# Altium schematic symbol library Interface_UART.SchLib: 133 symbols (part 2 of 2)
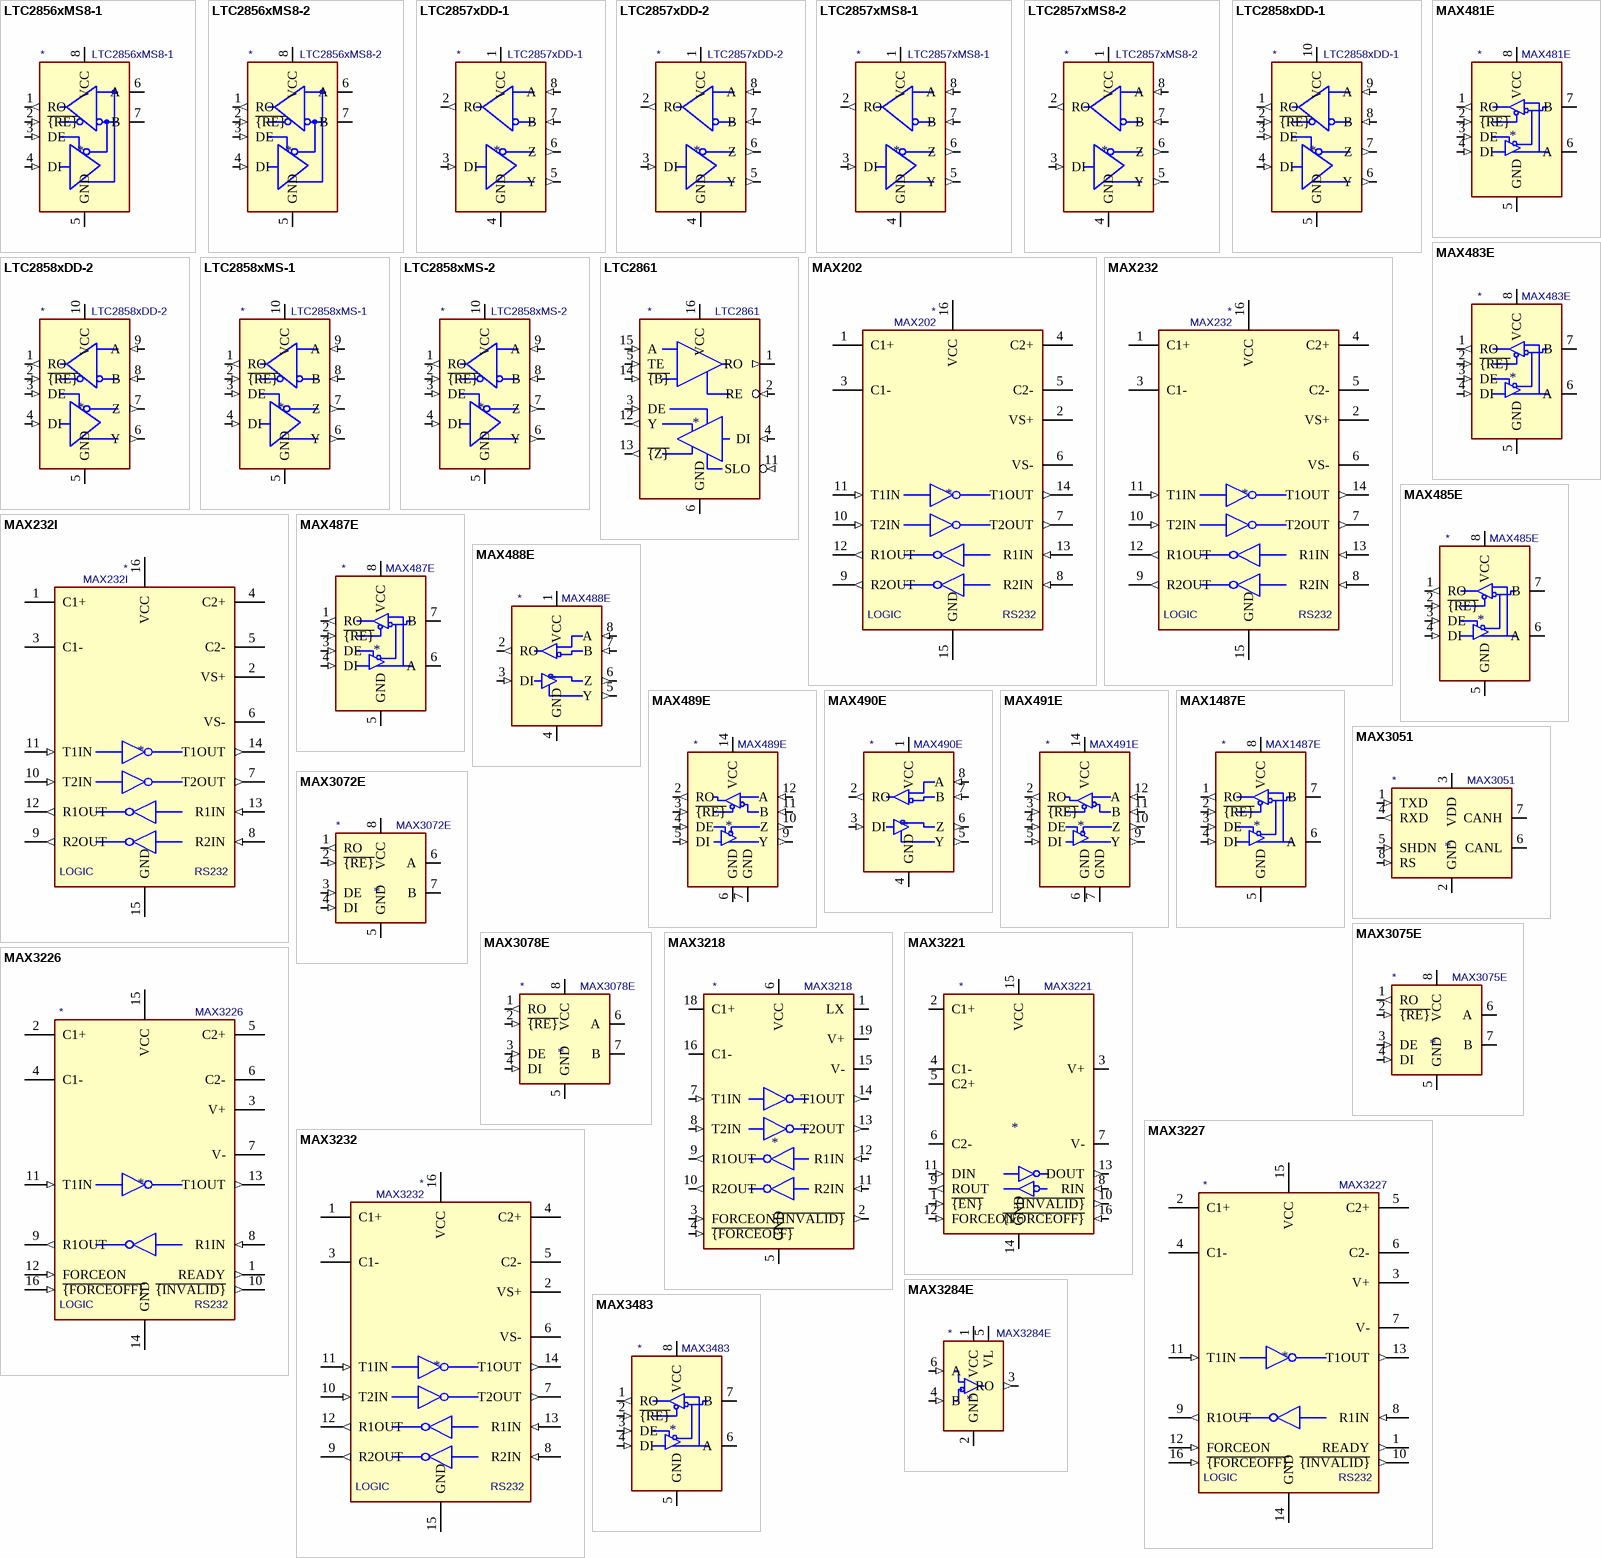
[diagram p5: symbols LTC2856xMS8-1 to MAX3483]

## MAX3218
designator *  value MAX3218
ki_keywords: 1μA Supply Current; ki_description: Dual RS-232 Transceiver, 1.8V to 4.25V, AutoShutdown, DIP-20/SSOP-20; ki_fp_filters: DIP*W7.62mm* SSOP*5.3x7.2mm*P0.65mm*; Supplier: https://datasheets.maximintegrated.com/en/ds/MAX3218.pdf
pins: 1 LX, 2 ~{{INVALID}} (out), 3 FORCEON (in), 4 ~{{FORCEOFF}} (in), 5 GND (power), 6 VCC (power), 7 T1IN (in), 8 T2IN (in), 9 R1OUT (out), 10 R2OUT (out), 11 R2IN (in), 12 R1IN (in), 13 T2OUT (out), 14 T1OUT (out), 15 V- (power), 16 C1-, 17 GND hidden, 18 C1+, 19 V+ (power), 20 GND hidden

## MAX3221
designator *  value MAX3221
ki_keywords: serial UART RS232; ki_description: RS232 transceiver with 15kV ESD protection; ki_fp_filters: SSOP* TSSOP*; Supplier: http://www.ti.com/lit/ds/symlink/max3221.pdf
pins: 1 ~{{EN}} (in), 2 C1+, 3 V+ (power), 4 C1-, 5 C2+, 6 C2-, 7 V- (power), 8 RIN (in), 9 ROUT (out), 10 ~{{INVALID}} (out), 11 DIN (in), 12 FORCEON (in), 13 DOUT (out), 14 GND (power), 15 VCC (power), 16 ~{{FORCEOFF}} (in)

## MAX3226
designator *  value MAX3226
ki_keywords: rs232 uart transceiver; ki_description: Single RS232 driver/receiver, 3.0V to 5V supply, 250kb/s, AutoShutdown Plus, SSOP-16 package; ki_fp_filters: SSOP*5.3x6.2mm*P0.65mm*; Footprint: Package_SO:SSOP-16_5.3x6.2mm_P0.65mm; Supplier: https://datasheets.maximintegrated.com/en/ds/MAX3224-MAX3245.pdf
footprint SSOP-16_5.3x6.2mm_P0.65mm
pins: 1 READY (out), 2 C1+, 3 V+ (power), 4 C1-, 5 C2+, 6 C2-, 7 V- (power), 8 R1IN (in), 9 R1OUT (out), 10 ~{{INVALID}} (out), 11 T1IN (in), 12 FORCEON (in), 13 T1OUT (out), 14 GND (power), 15 VCC (power), 16 ~{{FORCEOFF}} (in)
text: LOGIC; RS232

## MAX3227
designator *  value MAX3227
ki_keywords: rs232 uart transceiver; ki_description: Single RS232 driver/receiver, 3.0V to 5V supply, 1Mb/s, AutoShutdown Plus, SSOP-16 package; ki_fp_filters: SSOP*5.3x6.2mm*P0.65mm*; Footprint: Package_SO:SSOP-16_5.3x6.2mm_P0.65mm; Supplier: https://datasheets.maximintegrated.com/en/ds/MAX3224-MAX3245.pdf
footprint SSOP-16_5.3x6.2mm_P0.65mm
pins: 1 READY (out), 2 C1+, 3 V+ (power), 4 C1-, 5 C2+, 6 C2-, 7 V- (power), 8 R1IN (in), 9 R1OUT (out), 10 ~{{INVALID}} (out), 11 T1IN (in), 12 FORCEON (in), 13 T1OUT (out), 14 GND (power), 15 VCC (power), 16 ~{{FORCEOFF}} (in)
text: LOGIC; RS232

## MAX3232
designator *  value MAX3232
ki_keywords: rs232 uart transceiver line-driver; ki_description: 3.0V to 5.5V, Low-Power, up to 1Mbps, True RS-232 Transceivers Using Four 0.1μF External Capacitors; ki_fp_filters: SOIC*P1.27mm* DIP*W7.62mm* TSSOP*4.4x5mm*P0.65mm*; Supplier: https://datasheets.maximintegrated.com/en/ds/MAX3222-MAX3241.pdf
pins: 1 C1+, 2 VS+ (power), 3 C1-, 4 C2+, 5 C2-, 6 VS- (power), 7 T2OUT (out), 8 R2IN (in), 9 R2OUT (out), 10 T2IN (in), 11 T1IN (in), 12 R1OUT (out), 13 R1IN (in), 14 T1OUT (out), 15 GND (power), 16 VCC (power)
text: LOGIC; RS232

## MAX3284E
designator *  value MAX3284E
ki_keywords: RS-485 RS-422 True Fail-Safe Receivers 1/4 unit load receiver; ki_description: ±15kV ESD-Protected 52Mbps, 3V to 5.5V RS-485/RS-422 True Fail-Safe Receivers, SOT23; ki_fp_filters: SOT?23*; Footprint: Package_TO_SOT_SMD:SOT-23-6; Supplier: https://datasheets.maximintegrated.com/en/ds/MAX3280E-MAX3284E.pdf
footprint SOT-23-6
pins: 1 VCC (power), 2 GND (power), 3 RO (out), 4 B (in), 5 VL (power), 6 A (in)

## MAX3483
designator *  value MAX3483
ki_keywords: RS-485 RS-422 UART line-driver transceiver; ki_description: True RS-485/RS-422, 0.25Mbps, Slew-Rate Limited, with low-power shutdown, with receiver/driver enable, 32 receiver drive capacitity, DIP-8 and SOIC-8; ki_fp_filters: DIP*W7.62mm* SOIC*3.9x4.9mm*P1.27mm*; Supplier: https://datasheets.maximintegrated.com/en/ds/MAX3483-MAX3491.pdf
pins: 1 RO (out), 2 ~{{RE}} (in), 3 DE (in), 4 DI (in), 5 GND (power), 6 A (io), 7 B (io), 8 VCC (power)

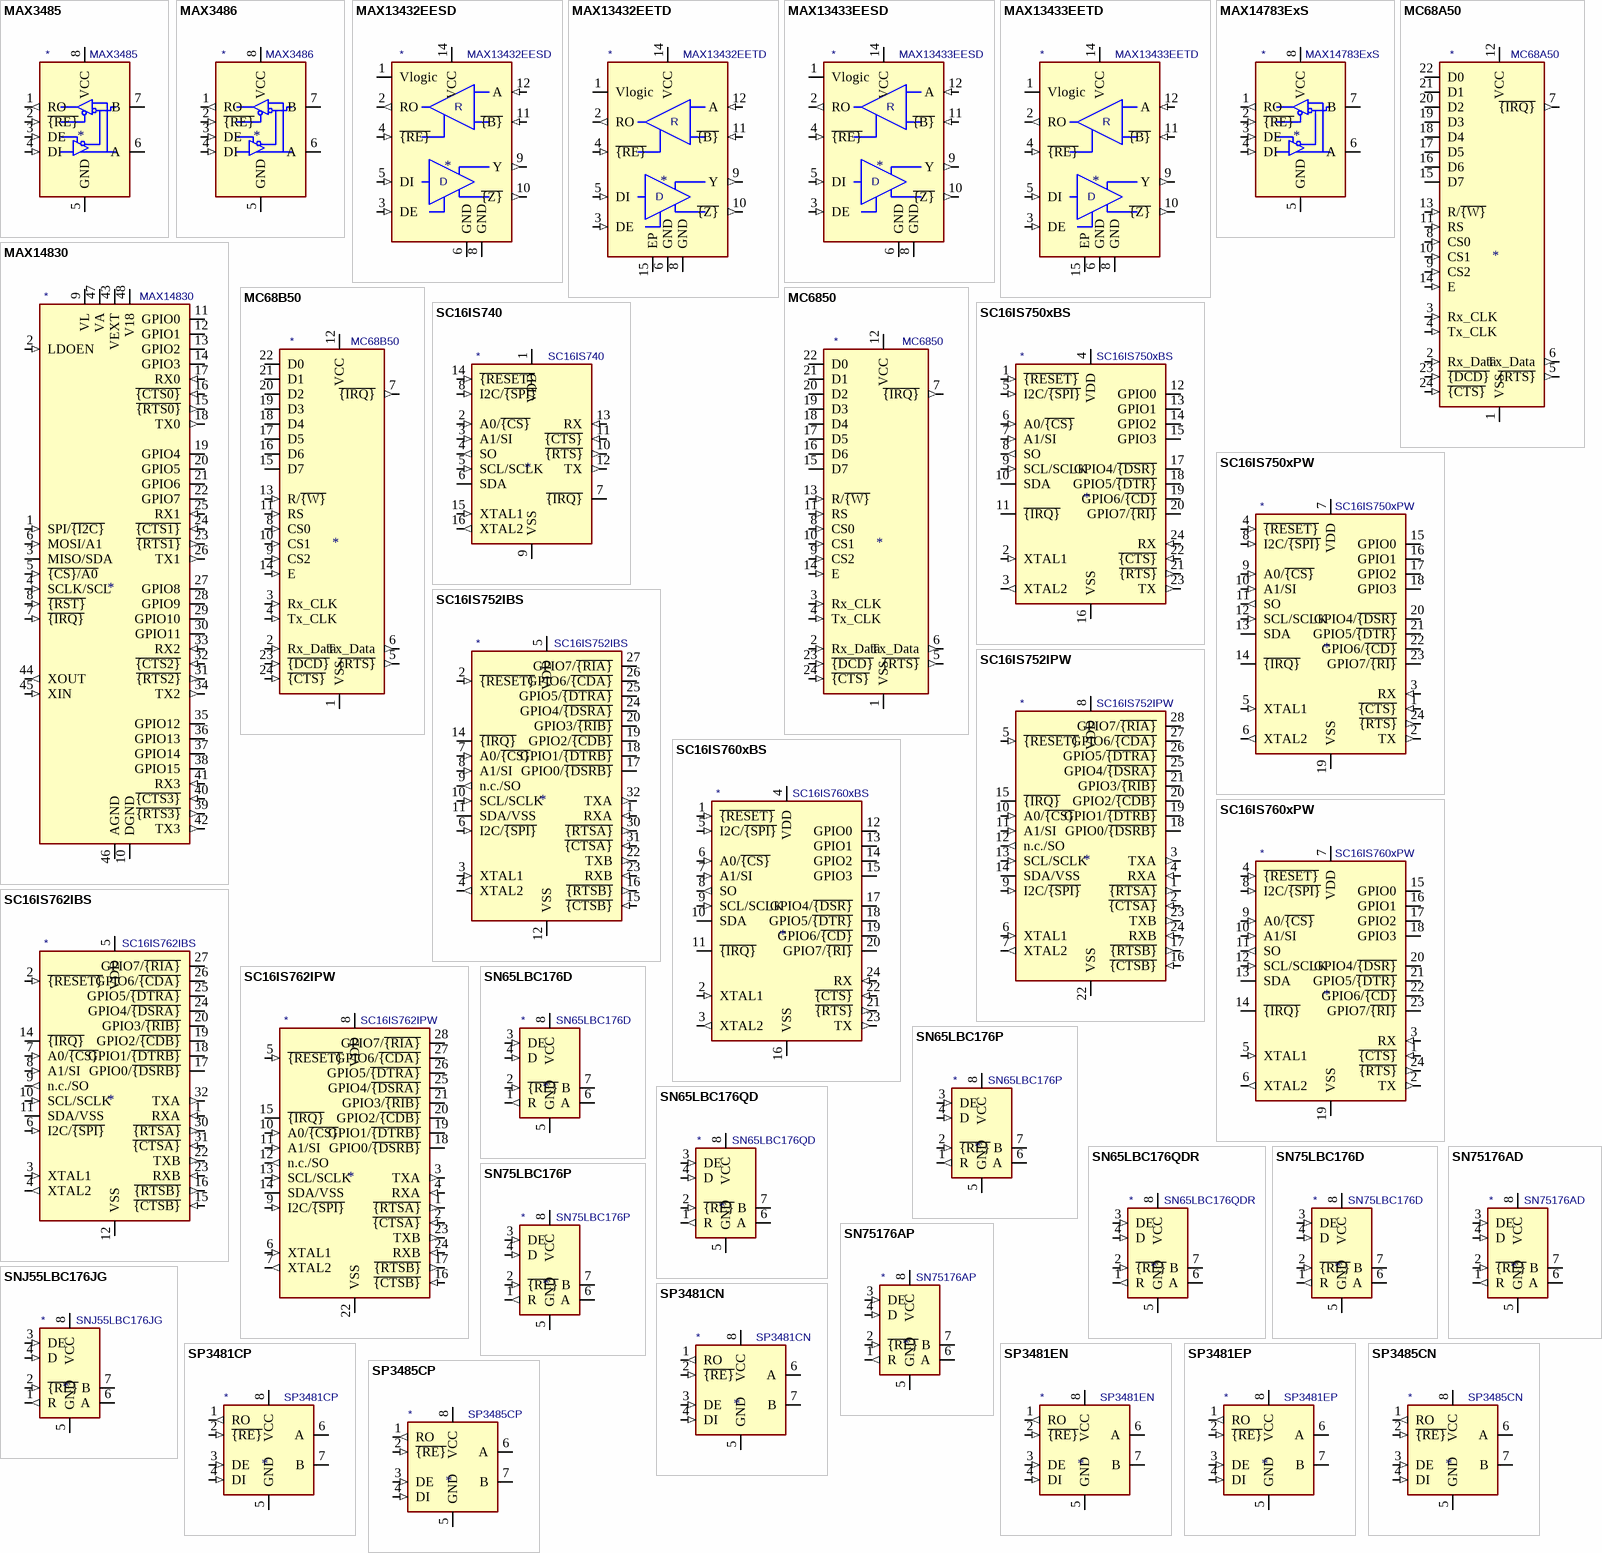
[diagram p3: symbols MAX3485 to SP3485CP]

## MAX3485
designator *  value MAX3485
ki_keywords: RS-485 RS-422 UART line-driver transceiver; ki_description: True RS-485/RS-422, 10Mbps, Slew-Rate Limited, with low-power shutdown, with receiver/driver enable, 32 receiver drive capacitity, DIP-8 and SOIC-8; ki_fp_filters: DIP*W7.62mm* SOIC*3.9x4.9mm*P1.27mm*; Supplier: https://datasheets.maximintegrated.com/en/ds/MAX3483-MAX3491.pdf
pins: 1 RO (out), 2 ~{{RE}} (in), 3 DE (in), 4 DI (in), 5 GND (power), 6 A (io), 7 B (io), 8 VCC (power)

## MAX3486
designator *  value MAX3486
ki_keywords: RS-485 RS-422 UART line-driver transceiver; ki_description: True RS-485/RS-422, 2.5Mbps, Slew-Rate Limited, with low-power shutdown, with receiver/driver enable, 32 receiver drive capacitity, DIP-8 and SOIC-8; ki_fp_filters: DIP*W7.62mm* SOIC*3.9x4.9mm*P1.27mm*; Supplier: https://datasheets.maximintegrated.com/en/ds/MAX3483-MAX3491.pdf
pins: 1 RO (out), 2 ~{{RE}} (in), 3 DE (in), 4 DI (in), 5 GND (power), 6 A (io), 7 B (io), 8 VCC (power)

## MAX13432EESD
designator *  value MAX13432EESD
ki_keywords: rs485 transceiver; ki_description: RS485 transceiver, full duplex, dual supply, receiver/driver enable, 500kbps, SOIC-14 package; ki_fp_filters: SOIC*3.9x8.7mm*P1.27mm*; Footprint: Package_SO:SOIC-14_3.9x8.7mm_P1.27mm; Supplier: https://datasheets.maximintegrated.com/en/ds/MAX13430E-MAX13433E.pdf
footprint SOIC-14_3.9x8.7mm_P1.27mm
pins: 1 Vlogic (power), 2 RO (out), 3 DE (in), 4 ~{{RE}} (in), 5 DI (in), 6 GND (power), 7 NC (in) hidden, 8 GND (power), 9 Y (out), 10 ~{{Z}} (out), 11 ~{{B}} (in), 12 A (in), 13 NC (in) hidden, 14 VCC (power)
text: R; D

## MAX13432EETD
designator *  value MAX13432EETD
ki_keywords: rs485 transceiver; ki_description: RS485 transceiver, full duplex, dual supply, receiver/driver enable, 500kbps, DFN-14 package; ki_fp_filters: DFN*3x3mm*P0.4mm*; Footprint: Package_DFN_QFN:DFN-14-1EP_3x3mm_P0.4mm_EP1.78x2.35mm; Supplier: https://datasheets.maximintegrated.com/en/ds/MAX13430E-MAX13433E.pdf
footprint DFN-14-1EP_3x3mm_P0.4mm_EP1.78x2.35mm
pins: 1 Vlogic (power), 2 RO (out), 3 DE (in), 4 ~{{RE}} (in), 5 DI (in), 6 GND (power), 7 NC (in) hidden, 8 GND (power), 9 Y (out), 10 ~{{Z}} (out), 11 ~{{B}} (in), 12 A (in), 13 NC (in) hidden, 14 VCC (power), 15 EP (power)
text: R; D

## MAX13433EESD
designator *  value MAX13433EESD
ki_keywords: rs485 transceiver; ki_description: RS485 transceiver, full duplex, dual supply, receiver/driver enable, 16Mbps, SOIC-14 package; ki_fp_filters: SOIC*3.9x8.7mm*P1.27mm*; Footprint: Package_SO:SOIC-14_3.9x8.7mm_P1.27mm; Supplier: https://datasheets.maximintegrated.com/en/ds/MAX13430E-MAX13433E.pdf
footprint SOIC-14_3.9x8.7mm_P1.27mm
pins: 1 Vlogic (power), 2 RO (out), 3 DE (in), 4 ~{{RE}} (in), 5 DI (in), 6 GND (power), 7 NC (in) hidden, 8 GND (power), 9 Y (out), 10 ~{{Z}} (out), 11 ~{{B}} (in), 12 A (in), 13 NC (in) hidden, 14 VCC (power)
text: R; D

## MAX13433EETD
designator *  value MAX13433EETD
ki_keywords: rs485 transceiver; ki_description: RS485 transceiver, full duplex, dual supply, receiver/driver enable, 16Mbps, DFN-14 package; ki_fp_filters: DFN*3x3mm*P0.4mm*; Footprint: Package_DFN_QFN:DFN-14-1EP_3x3mm_P0.4mm_EP1.78x2.35mm; Supplier: https://datasheets.maximintegrated.com/en/ds/MAX13430E-MAX13433E.pdf
footprint DFN-14-1EP_3x3mm_P0.4mm_EP1.78x2.35mm
pins: 1 Vlogic (power), 2 RO (out), 3 DE (in), 4 ~{{RE}} (in), 5 DI (in), 6 GND (power), 7 NC (in) hidden, 8 GND (power), 9 Y (out), 10 ~{{Z}} (out), 11 ~{{B}} (in), 12 A (in), 13 NC (in) hidden, 14 VCC (power), 15 EP (power)
text: R; D

## MAX14783ExS
designator *  value MAX14783ExS
ki_keywords: High-Speed 3.3V/5V RS-485/RS-422 Transceiver ESD 42Mbps; ki_description: High-Speed 3.3V/5V RS-485/RS-422 Transceiver with ±35kV HBM ESD Protection, SOIC8; ki_fp_filters: SOIC*3.9x4.9mm*P1.27mm*; Footprint: Package_SO:SOIC-8_3.9x4.9mm_P1.27mm; Supplier: https://datasheets.maximintegrated.com/en/ds/MAX14783E.pdf
footprint SOIC-8_3.9x4.9mm_P1.27mm
pins: 1 RO (out), 2 ~{{RE}} (in), 3 DE (in), 4 DI (in), 5 GND (power), 6 A (io), 7 B (io), 8 VCC (power)

## MAX14830
designator *  value MAX14830
ki_keywords: UART I2C/SPI 128W FIFO IrDA SIR; ki_description: Quad UART with I2C/SPI interface, 128 Word FIFOs, IrDA SIR built-in support, TQFN-48; ki_fp_filters: TQFN*1EP*7x7mm*P0.5mm*; Footprint: Package_DFN_QFN:TQFN-48-1EP_7x7mm_P0.5mm_EP5.1x5.1mm; Supplier: https://datasheets.maximintegrated.com/en/ds/MAX14830.pdf
footprint TQFN-48-1EP_7x7mm_P0.5mm_EP5.1x5.1mm
pins: 1 SPI/~{{I2C}} (in), 2 LDOEN (in), 3 MISO/SDA (io), 4 SCLK/SCL (in), 5 ~{{CS}/A0} (in), 6 MOSI/A1 (in), 7 ~{{IRQ}} (in), 8 ~{{RST}} (in), 9 VL (power), 10 DGND (power), 11 GPIO0 (io), 12 GPIO1 (io), 13 GPIO2 (io), 14 GPIO3 (io), 15 ~{{RTS0}} (out), 16 ~{{CTS0}} (in), 17 RX0 (in), 18 TX0 (out), 19 GPIO4 (io), 20 GPIO5 (io), 21 GPIO6 (io), 22 GPIO7 (io), 23 ~{{RTS1}} (out), 24 ~{{CTS1}} (in), 25 RX1 (in), 26 TX1 (out), 27 GPIO8 (io), 28 GPIO9 (io), 29 GPIO10 (io), 30 GPIO11 (io), 31 ~{{RTS2}} (out), 32 ~{{CTS2}} (in), 33 RX2 (in), 34 TX2 (out), 35 GPIO12 (io), 36 GPIO13 (io), 37 GPIO14 (io), 38 GPIO15 (io), 39 ~{{RTS3}} (out), 40 ~{{CTS3}} (in), 41 RX3 (in), 42 TX3 (out), 43 VEXT (power), 44 XOUT (out), 45 XIN (in), 46 AGND (power), 47 VA (power), 48 V18 (power), 49 AGND hidden

## MC68A50
designator *  value MC68A50
ki_keywords: ACIA; ki_description: Asynchronous Communications Interface Adapter 1.5MHz, DIP-40; ki_fp_filters: DIP*W15.24mm*; Footprint: Package_DIP:DIP-40_W15.24mm; Supplier: http://pdf.datasheetcatalog.com/datasheet/motorola/MC6850.pdf
footprint DIP-40_W15.24mm
pins: 1 VSS (power), 2 Rx_Data (in), 3 Rx_CLK (in), 4 Tx_CLK (in), 5 ~{{RTS}} (out), 6 Tx_Data (out), 7 ~{{IRQ}} (out), 8 CS0 (in), 9 CS2 (in), 10 CS1 (in), 11 RS (in), 12 VCC (power), 13 R/~{{W}} (in), 14 E (in), 15 D7 (io), 16 D6 (io), 17 D5 (io), 18 D4 (io), 19 D3 (io), 20 D2 (io), 21 D1 (io), 22 D0 (io), 23 ~{{DCD}} (in), 24 ~{{CTS}} (in)

## MC68B50
designator *  value MC68B50
ki_keywords: ACIA; ki_description: Asynchronous Communications Interface Adapter 2MHz, DIP-40; ki_fp_filters: DIP*W15.24mm*; Footprint: Package_DIP:DIP-40_W15.24mm; Supplier: http://pdf.datasheetcatalog.com/datasheet/motorola/MC6850.pdf
footprint DIP-40_W15.24mm
pins: 1 VSS (power), 2 Rx_Data (in), 3 Rx_CLK (in), 4 Tx_CLK (in), 5 ~{{RTS}} (out), 6 Tx_Data (out), 7 ~{{IRQ}} (out), 8 CS0 (in), 9 CS2 (in), 10 CS1 (in), 11 RS (in), 12 VCC (power), 13 R/~{{W}} (in), 14 E (in), 15 D7 (io), 16 D6 (io), 17 D5 (io), 18 D4 (io), 19 D3 (io), 20 D2 (io), 21 D1 (io), 22 D0 (io), 23 ~{{DCD}} (in), 24 ~{{CTS}} (in)

## MC6850
designator *  value MC6850
ki_keywords: ACIA; ki_description: Asynchronous Communications Interface Adapter 1MHz, DIP-40; ki_fp_filters: DIP*W15.24mm*; Footprint: Package_DIP:DIP-40_W15.24mm; Supplier: http://pdf.datasheetcatalog.com/datasheet/motorola/MC6850.pdf
footprint DIP-40_W15.24mm
pins: 1 VSS (power), 2 Rx_Data (in), 3 Rx_CLK (in), 4 Tx_CLK (in), 5 ~{{RTS}} (out), 6 Tx_Data (out), 7 ~{{IRQ}} (out), 8 CS0 (in), 9 CS2 (in), 10 CS1 (in), 11 RS (in), 12 VCC (power), 13 R/~{{W}} (in), 14 E (in), 15 D7 (io), 16 D6 (io), 17 D5 (io), 18 D4 (io), 19 D3 (io), 20 D2 (io), 21 D1 (io), 22 D0 (io), 23 ~{{DCD}} (in), 24 ~{{CTS}} (in)

## SC16IS740
designator *  value SC16IS740
ki_keywords: UART I2C/SPI 64B FIFO IrDA SIR; ki_description: Single UART with I2C/SPI interface, 64 bytes of transmit and receive FIFOs, IrDA SIR built-in support, TSSOP-16; ki_fp_filters: TSSOP*4.4x5mm*P0.65mm*; Footprint: Package_SO:TSSOP-16_4.4x5mm_P0.65mm; Supplier: https://www.nxp.com/docs/en/data-sheet/SC16IS740_750_760.pdf
footprint TSSOP-16_4.4x5mm_P0.65mm
pins: 1 VDD (power), 2 A0/~{{CS}} (in), 3 A1/SI (in), 4 SO (out), 5 SCL/SCLK (in), 6 SDA (io), 7 ~{{IRQ}} (oc), 8 I2C/~{{SPI}} (in), 9 VSS (power), 10 ~{{RTS}} (out), 11 ~{{CTS}} (in), 12 TX (out), 13 RX (in), 14 ~{{RESET}} (in), 15 XTAL1 (in), 16 XTAL2 (out)

## SC16IS750xBS
designator *  value SC16IS750xBS
ki_keywords: UART I2C/SPI 64B FIFO IrDA SIR; ki_description: Single UART with I2C/SPI interface, 64 bytes of transmit and receive FIFOs, IrDA SIR built-in support, HVQFN-24; ki_fp_filters: HVQFN*1EP*4x4mm*P0.5mm*; Footprint: Package_DFN_QFN:HVQFN-24-1EP_4x4mm_P0.5mm_EP2.5x2.5mm; Supplier: https://www.nxp.com/docs/en/data-sheet/SC16IS740_750_760.pdf
footprint HVQFN-24-1EP_4x4mm_P0.5mm_EP2.5x2.5mm
pins: 1 ~{{RESET}} (in), 2 XTAL1 (in), 3 XTAL2 (out), 4 VDD (power), 5 I2C/~{{SPI}} (in), 6 A0/~{{CS}} (in), 7 A1/SI (in), 8 SO (out), 9 SCL/SCLK (in), 10 SDA (io), 11 ~{{IRQ}} (oc), 12 GPIO0 (io), 13 GPIO1 (io), 14 GPIO2 (io), 15 GPIO3 (io), 16 VSS (power), 17 GPIO4/~{{DSR}} (io), 18 GPIO5/~{{DTR}} (io), 19 GPIO6/~{{CD}} (io), 20 GPIO7/~{{RI}} (io), 21 ~{{RTS}} (out), 22 ~{{CTS}} (in), 23 TX (out), 24 RX (in), 25 VSS hidden

## SC16IS750xPW
designator *  value SC16IS750xPW
ki_keywords: UART I2C/SPI 64B FIFO IrDA SIR; ki_description: Single UART with I2C/SPI interface, 64 bytes of transmit and receive FIFOs, IrDA SIR built-in support, TSSOP-24; ki_fp_filters: TSSOP*4.4x7.8mm*P0.65mm*; Footprint: Package_SO:TSSOP-24_4.4x7.8mm_P0.65mm; Supplier: https://www.nxp.com/docs/en/data-sheet/SC16IS740_750_760.pdf
footprint TSSOP-24_4.4x7.8mm_P0.65mm
pins: 1 ~{{CTS}} (in), 2 TX (out), 3 RX (in), 4 ~{{RESET}} (in), 5 XTAL1 (in), 6 XTAL2 (out), 7 VDD (power), 8 I2C/~{{SPI}} (in), 9 A0/~{{CS}} (in), 10 A1/SI (in), 11 SO (out), 12 SCL/SCLK (in), 13 SDA (io), 14 ~{{IRQ}} (oc), 15 GPIO0 (io), 16 GPIO1 (io), 17 GPIO2 (io), 18 GPIO3 (io), 19 VSS (power), 20 GPIO4/~{{DSR}} (io), 21 GPIO5/~{{DTR}} (io), 22 GPIO6/~{{CD}} (io), 23 GPIO7/~{{RI}} (io), 24 ~{{RTS}} (out)

## SC16IS752IBS
designator *  value SC16IS752IBS
ki_keywords: UART I2C/SPI 64B FIFO IrDA SIR; ki_description: Dual UART with I2C/SPI interface, 64 bytes of transmit and receive FIFOs, IrDA SIR built-in support, HVQFN-32; ki_fp_filters: VQFN*1EP*5x5mm*P0.5mm*; Footprint: Package_DFN_QFN:VQFN-32-1EP_5x5mm_P0.5mm_EP3.1x3.1mm; Supplier: https://www.nxp.com/docs/en/data-sheet/SC16IS752_SC16IS762.pdf
footprint VQFN-32-1EP_5x5mm_P0.5mm_EP3.1x3.1mm
pins: 1 RXA (in), 2 ~{{RESET}} (in), 3 XTAL1 (in), 4 XTAL2 (out), 5 VDD (power), 6 I2C/~{{SPI}} (in), 7 A0/~{{CS}} (in), 8 A1/SI (in), 9 n.c./SO (out), 10 SCL/SCLK (in), 11 SDA/VSS (io), 12 VSS (power), 13 VDD hidden, 14 ~{{IRQ}} (oc), 15 ~{{CTSB}} (in), 16 ~{{RTSB}} (out), 17 GPIO0/~{{DSRB}} (io), 18 GPIO1/~{{DTRB}} (io), 19 GPIO2/~{{CDB}} (io), 20 GPIO3/~{{RIB}} (io), 21 VSS hidden, 22 TXB (out), 23 RXB (in), 24 GPIO4/~{{DSRA}} (io), 25 GPIO5/~{{DTRA}} (io), 26 GPIO6/~{{CDA}} (io), 27 GPIO7/~{{RIA}} (io), 28 VDD hidden, 29 VSS hidden, 30 ~{{RTSA}} (out), 31 ~{{CTSA}} (in), 32 TXA (out), 33 VSS hidden

## SC16IS752IPW
designator *  value SC16IS752IPW
ki_keywords: UART I2C/SPI 64B FIFO IrDA SIR; ki_description: Dual UART with I2C/SPI interface, 64 bytes of transmit and receive FIFOs, IrDA SIR built-in support, TSSOP-28; ki_fp_filters: TSSOP*4.4x9.7mm*P0.65mm*; Footprint: Package_SO:TSSOP-28_4.4x9.7mm_P0.65mm; Supplier: https://www.nxp.com/docs/en/data-sheet/SC16IS752_SC16IS762.pdf
footprint TSSOP-28_4.4x9.7mm_P0.65mm
pins: 1 ~{{RTSA}} (out), 2 ~{{CTSA}} (in), 3 TXA (out), 4 RXA (in), 5 ~{{RESET}} (in), 6 XTAL1 (in), 7 XTAL2 (out), 8 VDD (power), 9 I2C/~{{SPI}} (in), 10 A0/~{{CS}} (in), 11 A1/SI (in), 12 n.c./SO (out), 13 SCL/SCLK (in), 14 SDA/VSS (io), 15 ~{{IRQ}} (oc), 16 ~{{CTSB}} (in), 17 ~{{RTSB}} (out), 18 GPIO0/~{{DSRB}} (io), 19 GPIO1/~{{DTRB}} (io), 20 GPIO2/~{{CDB}} (io), 21 GPIO3/~{{RIB}} (io), 22 VSS (power), 23 TXB (out), 24 RXB (in), 25 GPIO4/~{{DSRA}} (io), 26 GPIO5/~{{DTRA}} (io), 27 GPIO6/~{{CDA}} (io), 28 GPIO7/~{{RIA}} (io)

## SC16IS760xBS
designator *  value SC16IS760xBS
ki_keywords: UART I2C/SPI 64B FIFO IrDA SIR; ki_description: Single UART with I2C/SPI interface, 64 bytes of transmit and receive FIFOs, IrDA SIR built-in support, HVQFN-24; ki_fp_filters: HVQFN*1EP*4x4mm*P0.5mm*; Footprint: Package_DFN_QFN:HVQFN-24-1EP_4x4mm_P0.5mm_EP2.5x2.5mm; Supplier: https://www.nxp.com/docs/en/data-sheet/SC16IS740_750_760.pdf
footprint HVQFN-24-1EP_4x4mm_P0.5mm_EP2.5x2.5mm
pins: 1 ~{{RESET}} (in), 2 XTAL1 (in), 3 XTAL2 (out), 4 VDD (power), 5 I2C/~{{SPI}} (in), 6 A0/~{{CS}} (in), 7 A1/SI (in), 8 SO (out), 9 SCL/SCLK (in), 10 SDA (io), 11 ~{{IRQ}} (oc), 12 GPIO0 (io), 13 GPIO1 (io), 14 GPIO2 (io), 15 GPIO3 (io), 16 VSS (power), 17 GPIO4/~{{DSR}} (io), 18 GPIO5/~{{DTR}} (io), 19 GPIO6/~{{CD}} (io), 20 GPIO7/~{{RI}} (io), 21 ~{{RTS}} (out), 22 ~{{CTS}} (in), 23 TX (out), 24 RX (in), 25 VSS hidden

## SC16IS760xPW
designator *  value SC16IS760xPW
ki_keywords: UART I2C/SPI 64B FIFO IrDA SIR; ki_description: Single UART with I2C/SPI interface, 64 bytes of transmit and receive FIFOs, IrDA SIR built-in support, TSSOP-24; ki_fp_filters: TSSOP*4.4x7.8mm*P0.65mm*; Footprint: Package_SO:TSSOP-24_4.4x7.8mm_P0.65mm; Supplier: https://www.nxp.com/docs/en/data-sheet/SC16IS740_750_760.pdf
footprint TSSOP-24_4.4x7.8mm_P0.65mm
pins: 1 ~{{CTS}} (in), 2 TX (out), 3 RX (in), 4 ~{{RESET}} (in), 5 XTAL1 (in), 6 XTAL2 (out), 7 VDD (power), 8 I2C/~{{SPI}} (in), 9 A0/~{{CS}} (in), 10 A1/SI (in), 11 SO (out), 12 SCL/SCLK (in), 13 SDA (io), 14 ~{{IRQ}} (oc), 15 GPIO0 (io), 16 GPIO1 (io), 17 GPIO2 (io), 18 GPIO3 (io), 19 VSS (power), 20 GPIO4/~{{DSR}} (io), 21 GPIO5/~{{DTR}} (io), 22 GPIO6/~{{CD}} (io), 23 GPIO7/~{{RI}} (io), 24 ~{{RTS}} (out)

## SC16IS762IBS
designator *  value SC16IS762IBS
ki_keywords: UART I2C/SPI 64B FIFO IrDA SIR; ki_description: Dual UART with I2C/SPI interface, 64 bytes of transmit and receive FIFOs, IrDA SIR built-in support, HVQFN-32; ki_fp_filters: VQFN*1EP*5x5mm*P0.5mm*; Footprint: Package_DFN_QFN:VQFN-32-1EP_5x5mm_P0.5mm_EP3.1x3.1mm; Supplier: https://www.nxp.com/docs/en/data-sheet/SC16IS752_SC16IS762.pdf
footprint VQFN-32-1EP_5x5mm_P0.5mm_EP3.1x3.1mm
pins: 1 RXA (in), 2 ~{{RESET}} (in), 3 XTAL1 (in), 4 XTAL2 (out), 5 VDD (power), 6 I2C/~{{SPI}} (in), 7 A0/~{{CS}} (in), 8 A1/SI (in), 9 n.c./SO (out), 10 SCL/SCLK (in), 11 SDA/VSS (io), 12 VSS (power), 13 VDD hidden, 14 ~{{IRQ}} (oc), 15 ~{{CTSB}} (in), 16 ~{{RTSB}} (out), 17 GPIO0/~{{DSRB}} (io), 18 GPIO1/~{{DTRB}} (io), 19 GPIO2/~{{CDB}} (io), 20 GPIO3/~{{RIB}} (io), 21 VSS hidden, 22 TXB (out), 23 RXB (in), 24 GPIO4/~{{DSRA}} (io), 25 GPIO5/~{{DTRA}} (io), 26 GPIO6/~{{CDA}} (io), 27 GPIO7/~{{RIA}} (io), 28 VDD hidden, 29 VSS hidden, 30 ~{{RTSA}} (out), 31 ~{{CTSA}} (in), 32 TXA (out), 33 VSS hidden

## SC16IS762IPW
designator *  value SC16IS762IPW
ki_keywords: UART I2C/SPI 64B FIFO IrDA SIR; ki_description: Dual UART with I2C/SPI interface, 64 bytes of transmit and receive FIFOs, IrDA SIR built-in support, TSSOP-28; ki_fp_filters: TSSOP*4.4x9.7mm*P0.65mm*; Footprint: Package_SO:TSSOP-28_4.4x9.7mm_P0.65mm; Supplier: https://www.nxp.com/docs/en/data-sheet/SC16IS752_SC16IS762.pdf
footprint TSSOP-28_4.4x9.7mm_P0.65mm
pins: 1 ~{{RTSA}} (out), 2 ~{{CTSA}} (in), 3 TXA (out), 4 RXA (in), 5 ~{{RESET}} (in), 6 XTAL1 (in), 7 XTAL2 (out), 8 VDD (power), 9 I2C/~{{SPI}} (in), 10 A0/~{{CS}} (in), 11 A1/SI (in), 12 n.c./SO (out), 13 SCL/SCLK (in), 14 SDA/VSS (io), 15 ~{{IRQ}} (oc), 16 ~{{CTSB}} (in), 17 ~{{RTSB}} (out), 18 GPIO0/~{{DSRB}} (io), 19 GPIO1/~{{DTRB}} (io), 20 GPIO2/~{{CDB}} (io), 21 GPIO3/~{{RIB}} (io), 22 VSS (power), 23 TXB (out), 24 RXB (in), 25 GPIO4/~{{DSRA}} (io), 26 GPIO5/~{{DTRA}} (io), 27 GPIO6/~{{CDA}} (io), 28 GPIO7/~{{RIA}} (io)

## SN65LBC176D
designator *  value SN65LBC176D
ki_keywords: Differential bus transceiver; ki_description: Differential bus transceiver, SOIC-8; ki_fp_filters: SOIC*3.9x4.9mm*P1.27mm*; Footprint: Package_SO:SOIC-8_3.9x4.9mm_P1.27mm; Supplier: http://www.ti.com/lit/ds/symlink/sn75lbc176.pdf
footprint SOIC-8_3.9x4.9mm_P1.27mm
pins: 1 R (out), 2 ~{{RE}} (in), 3 DE (in), 4 D (in), 5 GND (power), 6 A (io), 7 B (io), 8 VCC (power)

## SN65LBC176P
designator *  value SN65LBC176P
ki_keywords: Differential bus transceiver; ki_description: Differential bus transceiver, DIP-8; ki_fp_filters: DIP*W7.62mm*; Footprint: Package_DIP:DIP-8_W7.62mm; Supplier: http://www.ti.com/lit/ds/symlink/sn75lbc176.pdf
footprint DIP-8_W7.62mm
pins: 1 R (out), 2 ~{{RE}} (in), 3 DE (in), 4 D (in), 5 GND (power), 6 A (io), 7 B (io), 8 VCC (power)

## SN65LBC176QD
designator *  value SN65LBC176QD
ki_keywords: Differential bus transceiver; ki_description: Differential bus transceiver, SOIC-8; ki_fp_filters: SOIC*3.9x4.9mm*P1.27mm*; Footprint: Package_SO:SOIC-8_3.9x4.9mm_P1.27mm; Supplier: http://www.ti.com/lit/ds/symlink/sn75lbc176.pdf
footprint SOIC-8_3.9x4.9mm_P1.27mm
pins: 1 R (out), 2 ~{{RE}} (in), 3 DE (in), 4 D (in), 5 GND (power), 6 A (io), 7 B (io), 8 VCC (power)

## SN65LBC176QDR
designator *  value SN65LBC176QDR
ki_keywords: Differential bus transceiver; ki_description: Differential bus transceiver, SOIC-8; ki_fp_filters: SOIC*3.9x4.9mm*P1.27mm*; Footprint: Package_SO:SOIC-8_3.9x4.9mm_P1.27mm; Supplier: http://www.ti.com/lit/ds/symlink/sn75lbc176.pdf
footprint SOIC-8_3.9x4.9mm_P1.27mm
pins: 1 R (out), 2 ~{{RE}} (in), 3 DE (in), 4 D (in), 5 GND (power), 6 A (io), 7 B (io), 8 VCC (power)

## SN75LBC176D
designator *  value SN75LBC176D
ki_keywords: Differential bus transceiver; ki_description: Differential bus transceiver, SOIC-8; ki_fp_filters: SOIC*3.9x4.9mm*P1.27mm*; Footprint: Package_SO:SOIC-8_3.9x4.9mm_P1.27mm; Supplier: http://www.ti.com/lit/ds/symlink/sn75lbc176.pdf
footprint SOIC-8_3.9x4.9mm_P1.27mm
pins: 1 R (out), 2 ~{{RE}} (in), 3 DE (in), 4 D (in), 5 GND (power), 6 A (io), 7 B (io), 8 VCC (power)

## SN75LBC176P
designator *  value SN75LBC176P
ki_keywords: Differential bus transceiver; ki_description: Differential bus transceiver, DIP-8; ki_fp_filters: DIP*W7.62mm*; Footprint: Package_DIP:DIP-8_W7.62mm; Supplier: http://www.ti.com/lit/ds/symlink/sn75lbc176.pdf
footprint DIP-8_W7.62mm
pins: 1 R (out), 2 ~{{RE}} (in), 3 DE (in), 4 D (in), 5 GND (power), 6 A (io), 7 B (io), 8 VCC (power)

## SN75176AD
designator *  value SN75176AD
ki_keywords: Differential bus transceiver; ki_description: Differential RS-422/RS-485 bus transceiver, SOIC-8; ki_fp_filters: SOIC*3.9x4.9mm*P1.27mm*; Footprint: Package_SO:SOIC-8_3.9x4.9mm_P1.27mm; Supplier: http://www.ti.com/lit/ds/symlink/sn75176a.pdf
footprint SOIC-8_3.9x4.9mm_P1.27mm
pins: 1 R (out), 2 ~{{RE}} (in), 3 DE (in), 4 D (in), 5 GND (power), 6 A (io), 7 B (io), 8 VCC (power)

## SN75176AP
designator *  value SN75176AP
ki_keywords: Differential bus transceiver; ki_description: Differential RS-422/RS-485 bus transceiver, DIP-8; ki_fp_filters: DIP*W7.62mm*; Footprint: Package_DIP:DIP-8_W7.62mm; Supplier: http://www.ti.com/lit/ds/symlink/sn75176a.pdf
footprint DIP-8_W7.62mm
pins: 1 R (out), 2 ~{{RE}} (in), 3 DE (in), 4 D (in), 5 GND (power), 6 A (io), 7 B (io), 8 VCC (power)

## SNJ55LBC176JG
designator *  value SNJ55LBC176JG
ki_keywords: Differential bus transceiver; ki_description: Differential bus transceiver, ceramic DIP-8; ki_fp_filters: DIP*W7.62mm*; Footprint: Package_DIP:DIP-8_W7.62mm; Supplier: http://www.ti.com/lit/ds/symlink/sn75lbc176.pdf
footprint DIP-8_W7.62mm
pins: 1 R (out), 2 ~{{RE}} (in), 3 DE (in), 4 D (in), 5 GND (power), 6 A (io), 7 B (io), 8 VCC (power)

## SP3481CN
designator *  value SP3481CN
ki_keywords: Low Power Half-Duplex RS-485 Transceiver 10Mbps; ki_description: 3.3V Low Power Half-Duplex RS-485 Transceiver 10Mbps, SOIC-8; ki_fp_filters: SOIC*3.9x4.9mm*P1.27mm*; Footprint: Package_SO:SOIC-8_3.9x4.9mm_P1.27mm; Supplier: http://www.icbase.com/pdf/SPX/SPX00480106.pdf
footprint SOIC-8_3.9x4.9mm_P1.27mm
pins: 1 RO (out), 2 ~{{RE}} (in), 3 DE (in), 4 DI (in), 5 GND (power), 6 A (io), 7 B (io), 8 VCC (power)

## SP3481CP
designator *  value SP3481CP
ki_keywords: Low Power Half-Duplex RS-485 Transceiver 10Mbps; ki_description: 3.3V Low Power Half-Duplex RS-485 Transceiver 10Mbps, DIP8; ki_fp_filters: DIP*W7.62mm*; Footprint: Package_DIP:DIP-8_W7.62mm; Supplier: http://www.icbase.com/pdf/SPX/SPX00480106.pdf
footprint DIP-8_W7.62mm
pins: 1 RO (out), 2 ~{{RE}} (in), 3 DE (in), 4 DI (in), 5 GND (power), 6 A (io), 7 B (io), 8 VCC (power)

## SP3481EN
designator *  value SP3481EN
ki_keywords: Low Power Half-Duplex RS-485 Transceiver 10Mbps; ki_description: Industrial 3.3V Low Power Half-Duplex RS-485 Transceiver 10Mbps, SOIC-8; ki_fp_filters: SOIC*3.9x4.9mm*P1.27mm*; Footprint: Package_SO:SOIC-8_3.9x4.9mm_P1.27mm; Supplier: http://www.icbase.com/pdf/SPX/SPX00480106.pdf
footprint SOIC-8_3.9x4.9mm_P1.27mm
pins: 1 RO (out), 2 ~{{RE}} (in), 3 DE (in), 4 DI (in), 5 GND (power), 6 A (io), 7 B (io), 8 VCC (power)

## SP3481EP
designator *  value SP3481EP
ki_keywords: Low Power Half-Duplex RS-485 Transceiver 10Mbps; ki_description: Industrial 3.3V Low Power Half-Duplex RS-485 Transceiver 10Mbps, DIP8; ki_fp_filters: DIP*W7.62mm*; Footprint: Package_DIP:DIP-8_W7.62mm; Supplier: http://www.icbase.com/pdf/SPX/SPX00480106.pdf
footprint DIP-8_W7.62mm
pins: 1 RO (out), 2 ~{{RE}} (in), 3 DE (in), 4 DI (in), 5 GND (power), 6 A (io), 7 B (io), 8 VCC (power)

## SP3485CN
designator *  value SP3485CN
ki_keywords: Low Power Half-Duplex RS-485 Transceiver 10Mbps; ki_description: 3.3V Low Power Half-Duplex RS-485 Transceiver 10Mbps, SOIC-8; ki_fp_filters: SOIC*3.9x4.9mm*P1.27mm*; Footprint: Package_SO:SOIC-8_3.9x4.9mm_P1.27mm; Supplier: http://www.icbase.com/pdf/SPX/SPX00480106.pdf
footprint SOIC-8_3.9x4.9mm_P1.27mm
pins: 1 RO (out), 2 ~{{RE}} (in), 3 DE (in), 4 DI (in), 5 GND (power), 6 A (io), 7 B (io), 8 VCC (power)

## SP3485CP
designator *  value SP3485CP
ki_keywords: Low Power Half-Duplex RS-485 Transceiver 10Mbps; ki_description: 3.3V Low Power Half-Duplex RS-485 Transceiver 10Mbps, DIP8; ki_fp_filters: DIP*W7.62mm*; Footprint: Package_DIP:DIP-8_W7.62mm; Supplier: http://www.icbase.com/pdf/SPX/SPX00480106.pdf
footprint DIP-8_W7.62mm
pins: 1 RO (out), 2 ~{{RE}} (in), 3 DE (in), 4 DI (in), 5 GND (power), 6 A (io), 7 B (io), 8 VCC (power)

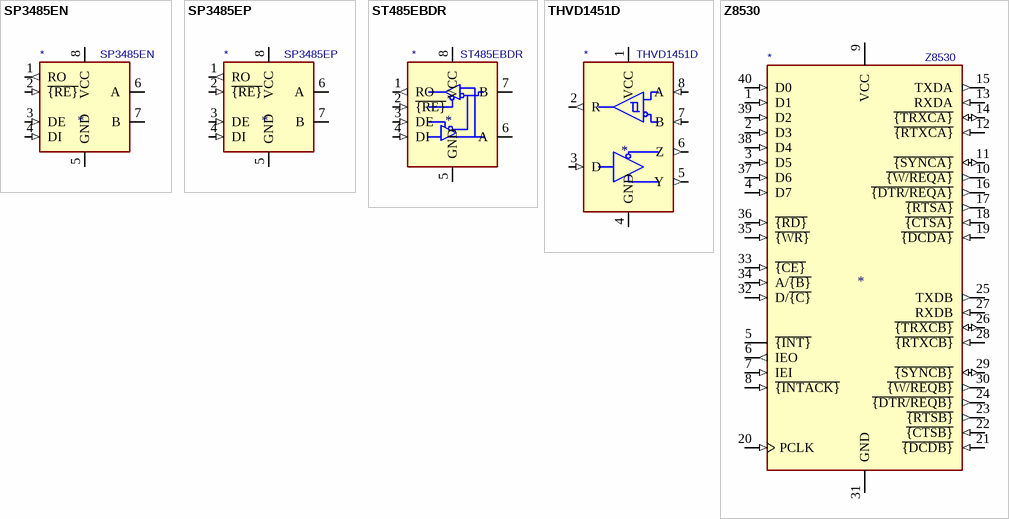
[diagram p4: symbols SP3485EN to Z8530]

## SP3485EN
designator *  value SP3485EN
ki_keywords: Low Power Half-Duplex RS-485 Transceiver 10Mbps; ki_description: Industrial 3.3V Low Power Half-Duplex RS-485 Transceiver 10Mbps, SOIC-8; ki_fp_filters: SOIC*3.9x4.9mm*P1.27mm*; Footprint: Package_SO:SOIC-8_3.9x4.9mm_P1.27mm; Supplier: http://www.icbase.com/pdf/SPX/SPX00480106.pdf
footprint SOIC-8_3.9x4.9mm_P1.27mm
pins: 1 RO (out), 2 ~{{RE}} (in), 3 DE (in), 4 DI (in), 5 GND (power), 6 A (io), 7 B (io), 8 VCC (power)

## SP3485EP
designator *  value SP3485EP
ki_keywords: Low Power Half-Duplex RS-485 Transceiver 10Mbps; ki_description: Industrial 3.3V Low Power Half-Duplex RS-485 Transceiver 10Mbps, DIP8; ki_fp_filters: DIP*W7.62mm*; Footprint: Package_DIP:DIP-8_W7.62mm; Supplier: http://www.icbase.com/pdf/SPX/SPX00480106.pdf
footprint DIP-8_W7.62mm
pins: 1 RO (out), 2 ~{{RE}} (in), 3 DE (in), 4 DI (in), 5 GND (power), 6 A (io), 7 B (io), 8 VCC (power)

## ST485EBDR
designator *  value ST485EBDR
ki_keywords: Half duplex RS-485/RS-422, 5 Mbps, ±15kV  256 transceiver bus; ki_description: Half duplex RS-485/RS-422, 5 Mbps, ±15kV electro-static discharge (ESD) protection, no slew-rate, with low-power shutdown, with receiver/driver enable, 256 transceiver on the bus - 40 to 85 °C, SOIC-8; ki_fp_filters: SOIC*3.9x4.9mm*P1.27mm*; Footprint: Package_SO:SOIC-8_3.9x4.9mm_P1.27mm; Supplier: http://www.st.com/resource/en/datasheet/st485eb.pdf
footprint SOIC-8_3.9x4.9mm_P1.27mm
pins: 1 RO (out), 2 ~{{RE}} (in), 3 DE (in), 4 DI (in), 5 GND (power), 6 A (io), 7 B (io), 8 VCC (power)

## THVD1451D
designator *  value THVD1451D
ki_keywords: rs485 transceiver line driver; ki_description: RS485 transceiver, 3.3-V to 5-V, 18-kV IEC ESD Protection, SOIC-8; ki_fp_filters: SOIC*3.9x4.9mm*P1.27mm*; Footprint: Package_SO:SOIC-8_3.9x4.9mm_P1.27mm; Supplier: http://www.ti.com/lit/ds/symlink/thvd1451.pdf
footprint SOIC-8_3.9x4.9mm_P1.27mm
pins: 1 VCC (power), 2 R (out), 3 D (in), 4 GND (power), 5 Y (out), 6 Z (out), 7 B (in), 8 A (in)

## Z8530
designator *  value Z8530
ki_keywords: SCC Serial Communication; ki_description: SCC Serial Communication Controller, DIP-40; ki_fp_filters: DIP* PDIP*
pins: 1 D1 (in), 2 D3 (in), 3 D5 (in), 4 D7 (in), 5 ~{{INT}} (oc), 6 IEO (out), 7 IEI (in), 8 ~{{INTACK}} (in), 9 VCC (power), 10 ~{{W/REQA}} (out), 11 ~{{SYNCA}} (io), 12 ~{{RTXCA}} (in), 13 RXDA (in), 14 ~{{TRXCA}} (io), 15 TXDA (out), 16 ~{{DTR/REQA}} (out), 17 ~{{RTSA}} (out), 18 ~{{CTSA}} (in), 19 ~{{DCDA}} (in), 20 PCLK (in), 21 ~{{DCDB}} (in), 22 ~{{CTSB}} (in), 23 ~{{RTSB}} (out), 24 ~{{DTR/REQB}} (out), 25 TXDB (out), 26 ~{{TRXCB}} (io), 27 RXDB (in), 28 ~{{RTXCB}} (in), 29 ~{{SYNCB}} (io), 30 ~{{W/REQB}} (out), 31 GND (power), 32 D/~{{C}} (in), 33 ~{{CE}} (in), 34 A/~{{B}} (in), 35 ~{{WR}} (in), 36 ~{{RD}} (in), 37 D6 (in), 38 D4 (in), 39 D2 (in), 40 D0 (in)